# EAGLE library part LPC4300_LBGA256 (library microbuilder)
Generic LPC4300 LBGA256 Package
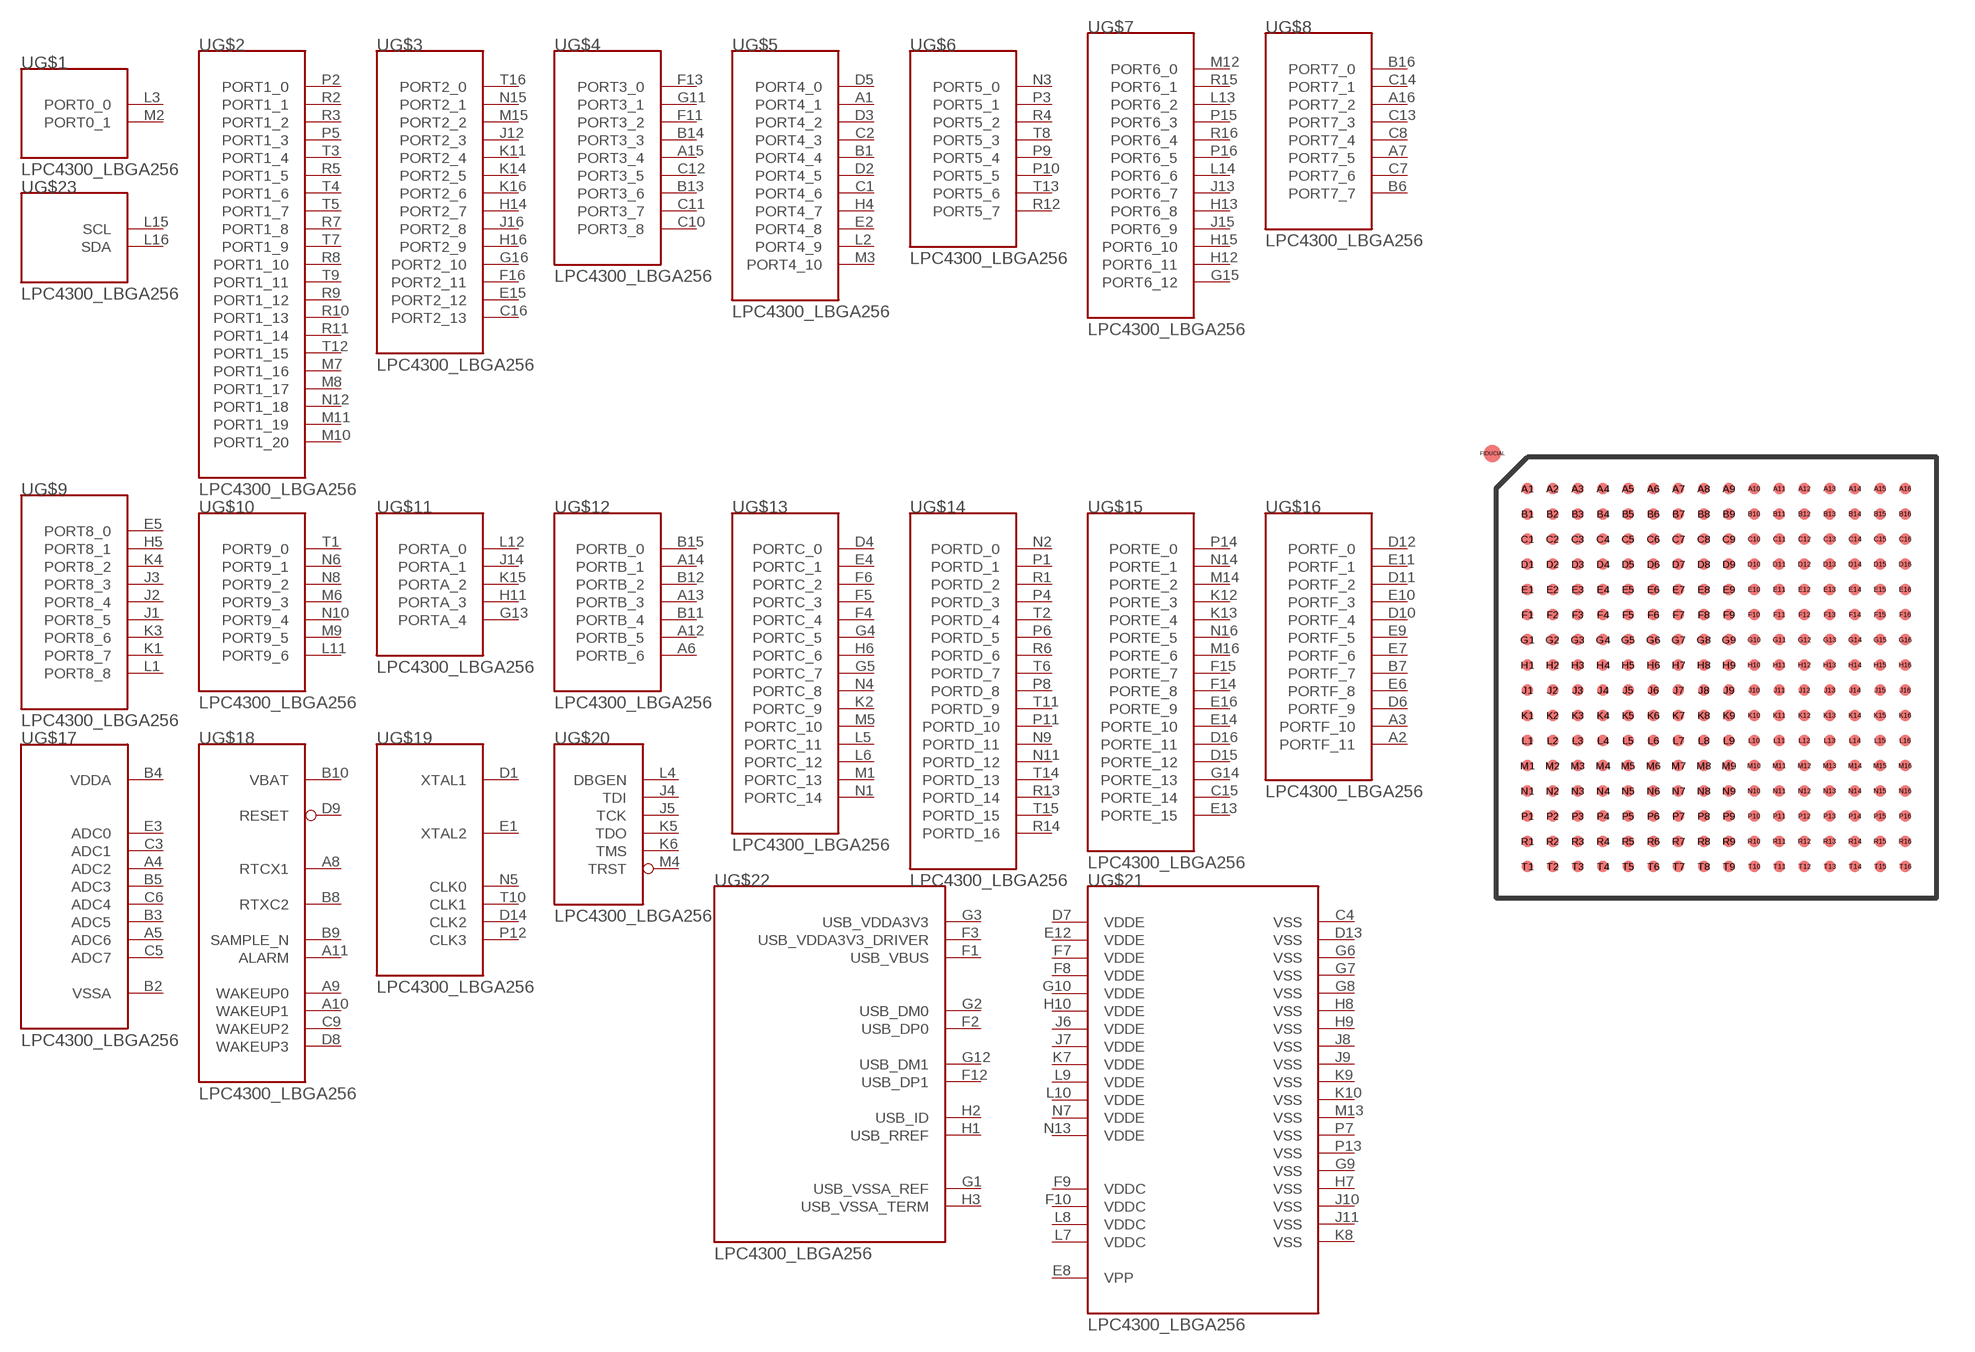
[diagram p131: symbol with the pads of LBGA256_1.0MM; footprint LBGA256_1.0MM]

Designator prefix U; gates G$1=LPC4300_PORT0 G$2=LPC4300_PORT1 G$3=LPC4300_PORT2 G$4=LPC4300_PORT3 G$5=LPC4300_PORT4 G$6=LPC4300_PORT5 G$7=LPC4300_PORT6 G$8=LPC4300_PORT7 G$9=LPC4300_PORT8 G$10=LPC4300_PORT9 G$11=LPC4300_PORTA G$12=LPC4300_PORTB G$13=LPC4300_PORTC G$14=LPC4300_PORTD G$15=LPC4300_PORTE G$16=LPC4300_PORTF G$17=LPC4300_ANA G$18=LPC4300_AO G$19=LPC4300_CLK G$20=LPC4300_DBUG G$21=LPC4300_SUP G$22=LPC4300_USB G$23=LPC4300_I2C

## LPC4300_LBGA256  [LBGA256_1.0MM]
A1  G$5:PORT4_1
A2  G$16:PORTF_11
A3  G$16:PORTF_10
A4  G$17:ADC2
A5  G$17:ADC6
A6  G$12:PORTB_6
A7  G$8:PORT7_5
A8  G$18:RTCX1
A9  G$18:WAKEUP0
A10  G$18:WAKEUP1
A11  G$18:ALARM
A12  G$12:PORTB_5
A13  G$12:PORTB_3
A14  G$12:PORTB_1
A15  G$4:PORT3_4
A16  G$8:PORT7_2
B1  G$5:PORT4_4
B2  G$17:VSSA  sup
B3  G$17:ADC5
B4  G$17:VDDA  sup
B5  G$17:ADC3
B6  G$8:PORT7_7
B7  G$16:PORTF_7
B8  G$18:RTXC2
B9  G$18:SAMPLE_N
B10  G$18:VBAT
B11  G$12:PORTB_4
B12  G$12:PORTB_2
B13  G$4:PORT3_6
B14  G$4:PORT3_3
B15  G$12:PORTB_0
B16  G$8:PORT7_0
C1  G$5:PORT4_6
C2  G$5:PORT4_3
C3  G$17:ADC1
C4  G$21:VSS  sup
C5  G$17:ADC7
C6  G$17:ADC4
C7  G$8:PORT7_6
C8  G$8:PORT7_4
C9  G$18:WAKEUP2
C10  G$4:PORT3_8
C11  G$4:PORT3_7
C12  G$4:PORT3_5
C13  G$8:PORT7_3
C14  G$8:PORT7_1
C15  G$15:PORTE_14
C16  G$3:PORT2_13
D1  G$19:XTAL1
D2  G$5:PORT4_5
D3  G$5:PORT4_2
D4  G$13:PORTC_0
D5  G$5:PORT4_0
D6  G$16:PORTF_9
D7  G$21:VDDE  sup
D8  G$18:WAKEUP3
D9  G$18:RESET
D10  G$16:PORTF_4
D11  G$16:PORTF_2
D12  G$16:PORTF_0
D13  G$21:VSS  sup
D14  G$19:CLK2
D15  G$15:PORTE_12
D16  G$15:PORTE_11
E1  G$19:XTAL2
E2  G$5:PORT4_8
E3  G$17:ADC0
E4  G$13:PORTC_1
E5  G$9:PORT8_0
E6  G$16:PORTF_8
E7  G$16:PORTF_6
E8  G$21:VPP  sup
E9  G$16:PORTF_5
E10  G$16:PORTF_3
E11  G$16:PORTF_1
E12  G$21:VDDE  sup
E13  G$15:PORTE_15
E14  G$15:PORTE_10
E15  G$3:PORT2_12
E16  G$15:PORTE_9
F1  G$22:USB_VBUS
F2  G$22:USB_DP0
F3  G$22:USB_VDDA3V3_DRIVER
F4  G$13:PORTC_4
F5  G$13:PORTC_3
F6  G$13:PORTC_2
F7  G$21:VDDE  sup
F8  G$21:VDDE  sup
F9  G$21:VDDC  sup
F10  G$21:VDDC  sup
F11  G$4:PORT3_2
F12  G$22:USB_DP1
F13  G$4:PORT3_0
F14  G$15:PORTE_8
F15  G$15:PORTE_7
F16  G$3:PORT2_11
G1  G$22:USB_VSSA_REF
G2  G$22:USB_DM0
G3  G$22:USB_VDDA3V3
G4  G$13:PORTC_5
G5  G$13:PORTC_7
G6  G$21:VSS  sup
G7  G$21:VSS  sup
G8  G$21:VSS  sup
G9  G$21:VSS  sup
G10  G$21:VDDE  sup
G11  G$4:PORT3_1
G12  G$22:USB_DM1
G13  G$11:PORTA_4
G14  G$15:PORTE_13
G15  G$7:PORT6_12
G16  G$3:PORT2_10
H1  G$22:USB_RREF
H2  G$22:USB_ID
H3  G$22:USB_VSSA_TERM
H4  G$5:PORT4_7
H5  G$9:PORT8_1
H6  G$13:PORTC_6
H7  G$21:VSS  sup
H8  G$21:VSS  sup
H9  G$21:VSS  sup
H10  G$21:VDDE  sup
H11  G$11:PORTA_3
H12  G$7:PORT6_11
H13  G$7:PORT6_8
H14  G$3:PORT2_7
H15  G$7:PORT6_10
H16  G$3:PORT2_9
J1  G$9:PORT8_5
J2  G$9:PORT8_4
J3  G$9:PORT8_3
J4  G$20:TDI
J5  G$20:TCK
J6  G$21:VDDE  sup
J7  G$21:VDDE  sup
J8  G$21:VSS  sup
J9  G$21:VSS  sup
J10  G$21:VSS  sup
J11  G$21:VSS  sup
J12  G$3:PORT2_3
J13  G$7:PORT6_7
J14  G$11:PORTA_1
J15  G$7:PORT6_9
J16  G$3:PORT2_8
K1  G$9:PORT8_7
K2  G$13:PORTC_9
K3  G$9:PORT8_6
K4  G$9:PORT8_2
K5  G$20:TDO
K6  G$20:TMS
K7  G$21:VDDE  sup
K8  G$21:VSS  sup
K9  G$21:VSS  sup
K10  G$21:VSS  sup
K11  G$3:PORT2_4
K12  G$15:PORTE_3
K13  G$15:PORTE_4
K14  G$3:PORT2_5
K15  G$11:PORTA_2
K16  G$3:PORT2_6
L1  G$9:PORT8_8  sup
L2  G$5:PORT4_9
L3  G$1:PORT0_0
L4  G$20:DBGEN
L5  G$13:PORTC_11
L6  G$13:PORTC_12
L7  G$21:VDDC  sup
L8  G$21:VDDC  sup
L9  G$21:VDDE  sup
L10  G$21:VDDE  sup
L11  G$10:PORT9_6
L12  G$11:PORTA_0
L13  G$7:PORT6_2
L14  G$7:PORT6_6
L15  G$23:SCL  sup
L16  G$23:SDA  sup
M1  G$13:PORTC_13
M2  G$1:PORT0_1
M3  G$5:PORT4_10
M4  G$20:TRST
M5  G$13:PORTC_10
M6  G$10:PORT9_3
M7  G$2:PORT1_16
M8  G$2:PORT1_17
M9  G$10:PORT9_5
M10  G$2:PORT1_20
M11  G$2:PORT1_19
M12  G$7:PORT6_0
M13  G$21:VSS  sup
M14  G$15:PORTE_2
M15  G$3:PORT2_2
M16  G$15:PORTE_6
N1  G$13:PORTC_14
N2  G$14:PORTD_0
N3  G$6:PORT5_0
N4  G$13:PORTC_8
N5  G$19:CLK0
N6  G$10:PORT9_1
N7  G$21:VDDE  sup
N8  G$10:PORT9_2
N9  G$14:PORTD_11
N10  G$10:PORT9_4
N11  G$14:PORTD_12
N12  G$2:PORT1_18
N13  G$21:VDDE  sup
N14  G$15:PORTE_1
N15  G$3:PORT2_1
N16  G$15:PORTE_5
P1  G$14:PORTD_1
P2  G$2:PORT1_0
P3  G$6:PORT5_1
P4  G$14:PORTD_3
P5  G$2:PORT1_3
P6  G$14:PORTD_5
P7  G$21:VSS  sup
P8  G$14:PORTD_8
P9  G$6:PORT5_4
P10  G$6:PORT5_5
P11  G$14:PORTD_10
P12  G$19:CLK3
P13  G$21:VSS  sup
P14  G$15:PORTE_0
P15  G$7:PORT6_3
P16  G$7:PORT6_5
R1  G$14:PORTD_2
R2  G$2:PORT1_1
R3  G$2:PORT1_2
R4  G$6:PORT5_2
R5  G$2:PORT1_5
R6  G$14:PORTD_6
R7  G$2:PORT1_8
R8  G$2:PORT1_10
R9  G$2:PORT1_12
R10  G$2:PORT1_13
R11  G$2:PORT1_14
R12  G$6:PORT5_7
R13  G$14:PORTD_14
R14  G$14:PORTD_16
R15  G$7:PORT6_1
R16  G$7:PORT6_4
T1  G$10:PORT9_0
T2  G$14:PORTD_4
T3  G$2:PORT1_4
T4  G$2:PORT1_6
T5  G$2:PORT1_7
T6  G$14:PORTD_7
T7  G$2:PORT1_9
T8  G$6:PORT5_3
T9  G$2:PORT1_11
T10  G$19:CLK1
T11  G$14:PORTD_9
T12  G$2:PORT1_15
T13  G$6:PORT5_6
T14  G$14:PORTD_13
T15  G$14:PORTD_15
T16  G$3:PORT2_0

## Footprint LBGA256_1.0MM (pad centres in mm)
LBGA256 - SOT740-2 LBGA256: plastic low profile ball grid array package; 256 balls; body 17 x 17 x 1 mm
smd 0.45 x 0.45: A1 -7.5,7.5; A2 -6.5,7.5; A3 -5.5,7.5; A4 -4.5,7.5; A5 -3.5,7.5; A6 -2.5,7.5; A7 -1.5,7.5; A8 -0.5,7.5; A9 0.5,7.5; A10 1.5,7.5; A11 2.5,7.5; A12 3.5,7.5; A13 4.5,7.5; A14 5.5,7.5; A15 6.5,7.5; A16 7.5,7.5; B1 -7.5,6.5; B2 -6.5,6.5; B3 -5.5,6.5; B4 -4.5,6.5; B5 -3.5,6.5; B6 -2.5,6.5; B7 -1.5,6.5; B8 -0.5,6.5; B9 0.5,6.5; B10 1.5,6.5; B11 2.5,6.5; B12 3.5,6.5; B13 4.5,6.5; B14 5.5,6.5; B15 6.5,6.5; B16 7.5,6.5; C1 -7.5,5.5; C2 -6.5,5.5; C3 -5.5,5.5; C4 -4.5,5.5; C5 -3.5,5.5; C6 -2.5,5.5; C7 -1.5,5.5; C8 -0.5,5.5; C9 0.5,5.5; C10 1.5,5.5; C11 2.5,5.5; C12 3.5,5.5; C13 4.5,5.5; C14 5.5,5.5; C15 6.5,5.5; C16 7.5,5.5; D1 -7.5,4.5; D2 -6.5,4.5; D3 -5.5,4.5; D4 -4.5,4.5; D5 -3.5,4.5; D6 -2.5,4.5; D7 -1.5,4.5; D8 -0.5,4.5; D9 0.5,4.5; D10 1.5,4.5; D11 2.5,4.5; D12 3.5,4.5; D13 4.5,4.5; D14 5.5,4.5; D15 6.5,4.5; D16 7.5,4.5; E1 -7.5,3.5; E2 -6.5,3.5; E3 -5.5,3.5; E4 -4.5,3.5; E5 -3.5,3.5; E6 -2.5,3.5; E7 -1.5,3.5; E8 -0.5,3.5; E9 0.5,3.5; E10 1.5,3.5; E11 2.5,3.5; E12 3.5,3.5; E13 4.5,3.5; E14 5.5,3.5; E15 6.5,3.5; E16 7.5,3.5; F1 -7.5,2.5; F2 -6.5,2.5; F3 -5.5,2.5; F4 -4.5,2.5; F5 -3.5,2.5; F6 -2.5,2.5; F7 -1.5,2.5; F8 -0.5,2.5; F9 0.5,2.5; F10 1.5,2.5; F11 2.5,2.5; F12 3.5,2.5; F13 4.5,2.5; F14 5.5,2.5; F15 6.5,2.5; F16 7.5,2.5; G1 -7.5,1.5; G2 -6.5,1.5; G3 -5.5,1.5; G4 -4.5,1.5; G5 -3.5,1.5; G6 -2.5,1.5; G7 -1.5,1.5; G8 -0.5,1.5; G9 0.5,1.5; G10 1.5,1.5; G11 2.5,1.5; G12 3.5,1.5; G13 4.5,1.5; G14 5.5,1.5; G15 6.5,1.5; G16 7.5,1.5; H1 -7.5,0.5; H2 -6.5,0.5; H3 -5.5,0.5; H4 -4.5,0.5; H5 -3.5,0.5; H6 -2.5,0.5; H7 -1.5,0.5; H8 -0.5,0.5; H9 0.5,0.5; H10 1.5,0.5; H11 2.5,0.5; H12 3.5,0.5; H13 4.5,0.5; H14 5.5,0.5; H15 6.5,0.5; H16 7.5,0.5; J1 -7.5,-0.5; J2 -6.5,-0.5; J3 -5.5,-0.5; J4 -4.5,-0.5; J5 -3.5,-0.5; J6 -2.5,-0.5; J7 -1.5,-0.5; J8 -0.5,-0.5; J9 0.5,-0.5; J10 1.5,-0.5; J11 2.5,-0.5; J12 3.5,-0.5; J13 4.5,-0.5; J14 5.5,-0.5; J15 6.5,-0.5; J16 7.5,-0.5; K1 -7.5,-1.5; K2 -6.5,-1.5; K3 -5.5,-1.5; K4 -4.5,-1.5; K5 -3.5,-1.5; K6 -2.5,-1.5; K7 -1.5,-1.5; K8 -0.5,-1.5; K9 0.5,-1.5; K10 1.5,-1.5; K11 2.5,-1.5; K12 3.5,-1.5; K13 4.5,-1.5; K14 5.5,-1.5; K15 6.5,-1.5; K16 7.5,-1.5; L1 -7.5,-2.5; L2 -6.5,-2.5; L3 -5.5,-2.5; L4 -4.5,-2.5; L5 -3.5,-2.5; L6 -2.5,-2.5; L7 -1.5,-2.5; L8 -0.5,-2.5; L9 0.5,-2.5; L10 1.5,-2.5; L11 2.5,-2.5; L12 3.5,-2.5; L13 4.5,-2.5; L14 5.5,-2.5; L15 6.5,-2.5; L16 7.5,-2.5; M1 -7.5,-3.5; M2 -6.5,-3.5; M3 -5.5,-3.5; M4 -4.5,-3.5; M5 -3.5,-3.5; M6 -2.5,-3.5; M7 -1.5,-3.5; M8 -0.5,-3.5; M9 0.5,-3.5; M10 1.5,-3.5; M11 2.5,-3.5; M12 3.5,-3.5; M13 4.5,-3.5; M14 5.5,-3.5; M15 6.5,-3.5; M16 7.5,-3.5; N1 -7.5,-4.5; N2 -6.5,-4.5; N3 -5.5,-4.5; N4 -4.5,-4.5; N5 -3.5,-4.5; N6 -2.5,-4.5; N7 -1.5,-4.5; N8 -0.5,-4.5; N9 0.5,-4.5; N10 1.5,-4.5; N11 2.5,-4.5; N12 3.5,-4.5; N13 4.5,-4.5; N14 5.5,-4.5; N15 6.5,-4.5; N16 7.5,-4.5; P1 -7.5,-5.5; P2 -6.5,-5.5; P3 -5.5,-5.5; P4 -4.5,-5.5; P5 -3.5,-5.5; P6 -2.5,-5.5; P7 -1.5,-5.5; P8 -0.5,-5.5; P9 0.5,-5.5; P10 1.5,-5.5; P11 2.5,-5.5; P12 3.5,-5.5; P13 4.5,-5.5; P14 5.5,-5.5; P15 6.5,-5.5; P16 7.5,-5.5; R1 -7.5,-6.5; R2 -6.5,-6.5; R3 -5.5,-6.5; R4 -4.5,-6.5; R5 -3.5,-6.5; R6 -2.5,-6.5; R7 -1.5,-6.5; R8 -0.5,-6.5; R9 0.5,-6.5; R10 1.5,-6.5; R11 2.5,-6.5; R12 3.5,-6.5; R13 4.5,-6.5; R14 5.5,-6.5; R15 6.5,-6.5; R16 7.5,-6.5; T1 -7.5,-7.5; T2 -6.5,-7.5; T3 -5.5,-7.5; T4 -4.5,-7.5; T5 -3.5,-7.5; T6 -2.5,-7.5; T7 -1.5,-7.5; T8 -0.5,-7.5; T9 0.5,-7.5; T10 1.5,-7.5; T11 2.5,-7.5; T12 3.5,-7.5; T13 4.5,-7.5; T14 5.5,-7.5; T15 6.5,-7.5; T16 7.5,-7.5
smd 0.7 x 0.7: FIDUCIAL -8.89,8.89